# Altium schematic symbol library MFL PEAK ANTENNA.Schlib: 1 symbol
Pins are listed as number, name and electrical type; pins without a type are passive.

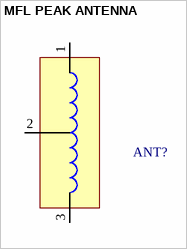
[diagram p0: symbol MFL PEAK ANTENNA]

## MFL PEAK ANTENNA
designator ANT?
pins: 1, 2, 3